# Altium footprint library CAP_RDEC71H226MWK1H03B.PcbLib: 1 footprints
Each footprint in its own frame and in the unit in brackets; x right, y up, seen from the top. Pads: shape width x height; smd on the part's side, far side on the other; paste and mask are expansions set on the pad; w line width, h text height; cw(c..) or ccw(c..) is an arc to the next point about the centre after c.
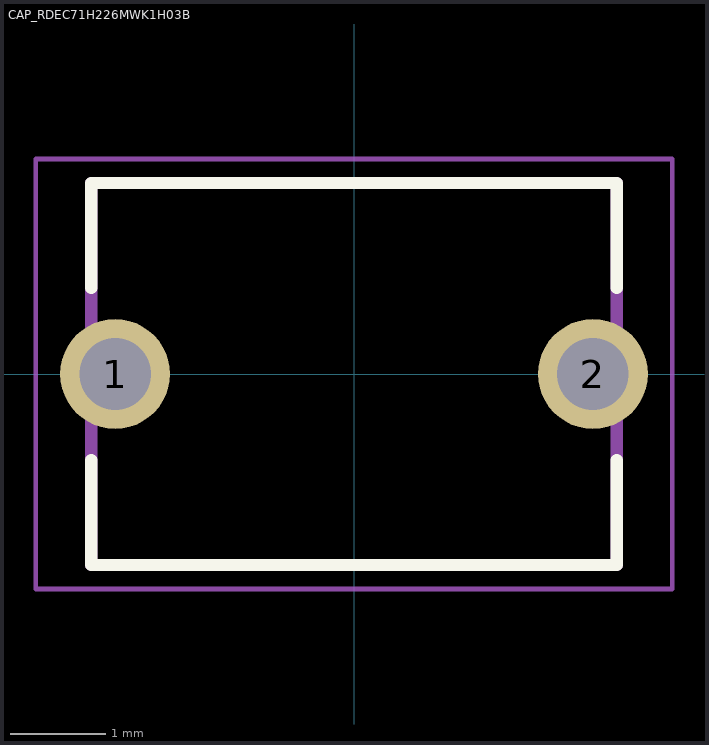
[diagram p0: the footprint, top view; thin cyan lines are the x and y axes]

## CAP_RDEC71H226MWK1H03B [mm]
pads (2):
  round 1.15 hole 0.75: 1(-2.5,0) 2(2.5,0)
Top Overlay:
  lines w0.127: -2.75,-0.9 -2.75,-2 2.75,-2 2.75,-0.9 ; -2.75,0.9 -2.75,2 2.75,2 2.75,0.9
Mechanical 13:
  lines w0.127: -2.75,-2 -2.75,2 2.75,2 2.75,-2 -2.75,-2
Mechanical 15:
  lines w0.05: -3.33,-2.25 -3.33,2.25 3.33,2.25 3.33,-2.25 -3.33,-2.25